# EAGLE library part USB (library digital-toy)
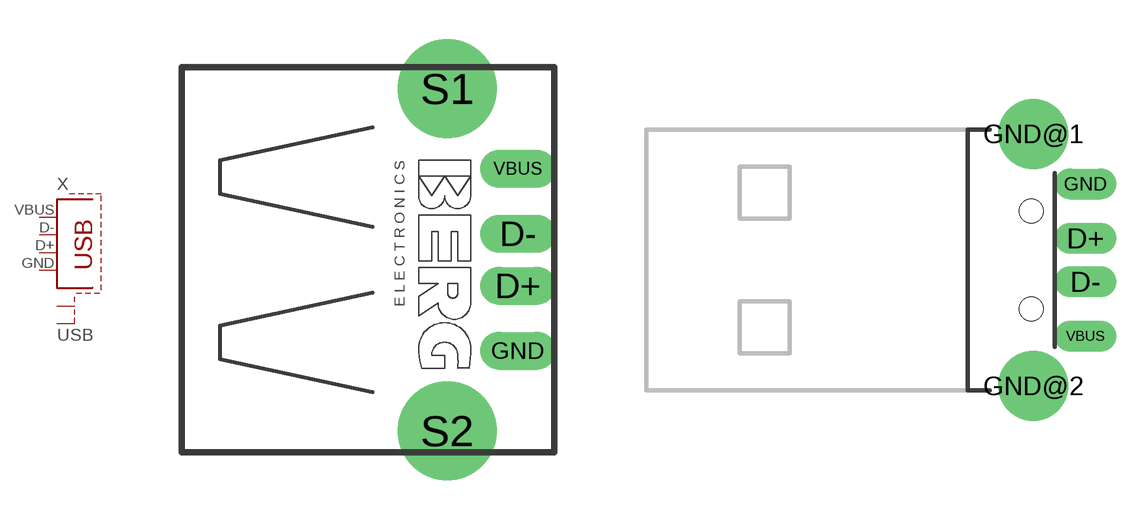
[diagram p9: symbol with the pads of PN87520-S; footprints PN87520-S, USB-A-H]

Designator prefix X

## USB-S  [PN87520-S]
D+  D+  pas
D-  D-  pas
GND  GND  pas
S1  S1  pas
S2  S2  pas
VBUS  VBUS  pas

## USB-A-H  [USB-A-H]
D+  D+  pas
D-  D-  pas
GND  GND  pas
GND@1  S1  pas
GND@2  S2  pas
VBUS  VBUS  pas

## Footprint PN87520-S (pad centres in mm)
USB connector with shield
drill 0.95 long: D+ 2.71,-1; D- 2.71,1; GND 2.71,-3.5; VBUS 2.71,3.5
drill 2.3 pad 3.81: S1 0,6.57; S2 0,-6.57

## Footprint USB-A-H (pad centres in mm)
USB Series A Hole Mounted
drill 0.914 pad 1.422 long: D+ 2.4,1; D- 2.4,-1; GND 2.4,3.5; VBUS 2.4,-3.5
drill 2.2: GND@1 0,5.8; GND@2 0,-5.8
hole 1.1 at -0.1,2.25
hole 1.1 at -0.1,-2.25